# Altium footprint library CONECTER.PcbLib: 145 footprints (part 10 of 10)
Each footprint in its own frame and in the unit in brackets; x right, y up, seen from the top. Pads: shape width x height; smd on the part's side, far side on the other; paste and mask are expansions set on the pad; w line width, h text height; cw(c..) or ccw(c..) is an arc to the next point about the centre after c.
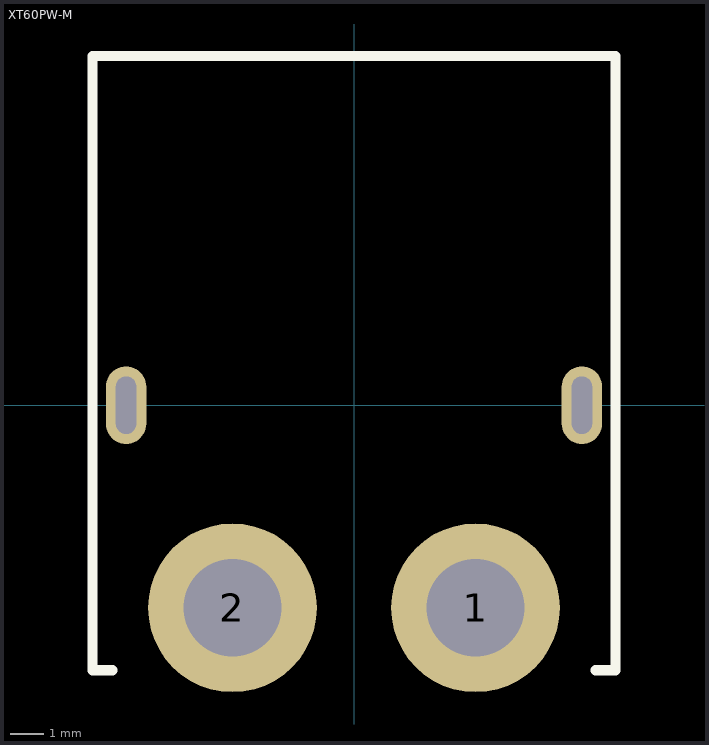
[diagram p9: the footprint, top view; thin cyan lines are the x and y axes]

## XT60PW-M [mm]
pads (4):
  round 5 hole 2.9 mask+0.5: 1(3.6,-6) 2(-3.6,-6)
  oval 1.2x2.3 hole 0.6 slot 1.7 at 90 deg: ""(-6.75,0) ""(6.75,0)
Top Overlay:
  lines w0.3: -7.15,-7.85 -7.75,-7.85 -7.75,10.35 7.75,10.35 7.75,-7.85 7.15,-7.85
3D body "XT60PW-M.STEP": height 8.4, standoff -2.2, extent -7.75,-7.85 7.75,10.35